# Altium footprint library 2_Pin_ScrewConnector.PcbLib: 1 footprints
Each footprint in its own frame and in the unit in brackets; x right, y up, seen from the top. Pads: shape width x height; smd on the part's side, far side on the other; paste and mask are expansions set on the pad; w line width, h text height; cw(c..) or ccw(c..) is an arc to the next point about the centre after c.
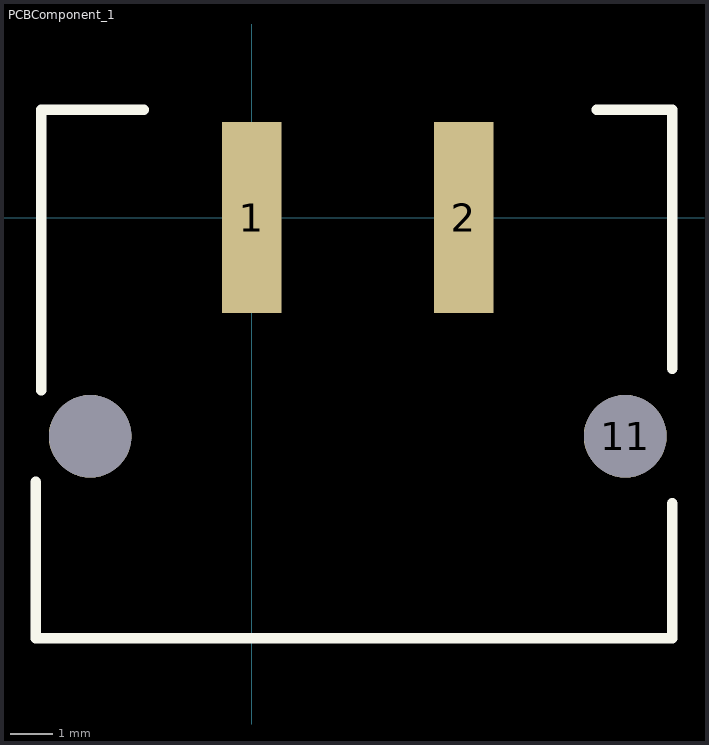
[diagram p0: the footprint, top view; thin cyan lines are the x and y axes]

## PCBComponent_1 [mm]
pads (4):
  rect 1.4x4.5 smd: 1(0,0) 2(5,0)
  round 1.95 hole 1.95 mask+0.102: 11(8.8,-5.15)
  round 1.95 hole 1.95: ""(-3.8,-5.15)
Top Overlay:
  lines w0.254: -5.08,-6.223 -5.08,-9.906 -4.826,-9.906 9.906,-9.906 9.906,-6.731 ; -4.953,-4.064 -4.953,2.54 -2.54,2.54 ; 8.128,2.54 9.906,2.54 9.906,-3.556
3D body "691709710302 (rev1).stp": height 10.95, standoff -1.75, extent -4.587,-9.63 9.413,1.92